# EAGLE library part CD4072B (library TEXAS_INSTRUMENTS)
TI CD4072BM96 Quad Input 2 Channel OR Gate SOIC-14 Datasheet <http://www.ti.com/lit/ds/symlink/cd4071b.pdf>
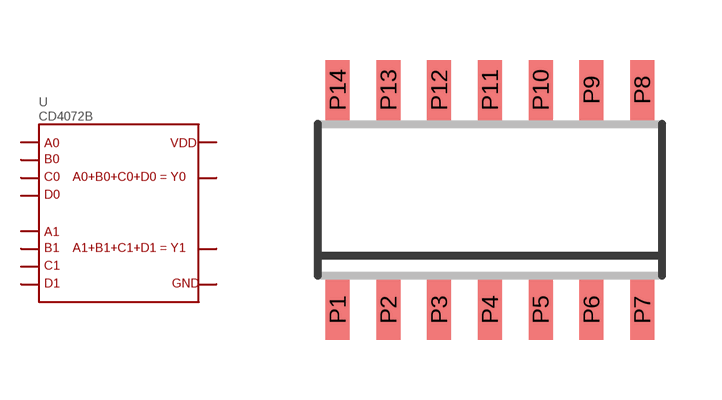
[diagram p0: symbol with the pads of SOIC8; footprint SOIC8]

Designator prefix -

## CD4072B  [SOIC8]
P1  Y0
P2  A0
P3  B0
P4  C0
P5  D0
P7  GND
P9  A1
P10  B1
P11  C1
P12  D1
P13  Y1
P14  VDD

## Footprint SOIC8 (pad centres in mm)
SOIC-14
smd 0.6 x 1.5: P1 -3.905,-2.75; P2 -2.635,-2.75; P3 -1.365,-2.75; P4 -0.095,-2.75; P5 1.175,-2.75; P6 2.445,-2.75; P7 3.715,-2.75; P8 3.715,2.75; P9 2.445,2.75; P10 1.175,2.75; P11 -0.095,2.75; P12 -1.365,2.75; P13 -2.635,2.75; P14 -3.905,2.75